# Altium schematic symbol library L293D.SchLib: 1 symbol
Pins are listed as number, name and electrical type; pins without a type are passive.

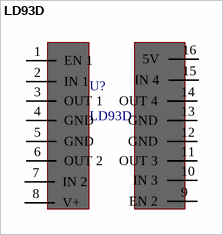
[diagram p0: symbol LD93D]

## LD93D
designator U?
THT DIP 16
footprint PCBComponent_1
pins: 1 EN 1, 2 IN 1, 3 OUT 1, 4 GND, 5 GND, 6 OUT 2, 7 IN 2, 8 V+, 9 EN 2, 10 IN 3, 11 OUT 3, 12 GND, 13 GND, 14 OUT 4, 15 IN 4, 16 5V